# EAGLE library part KXR94 (library kionix)
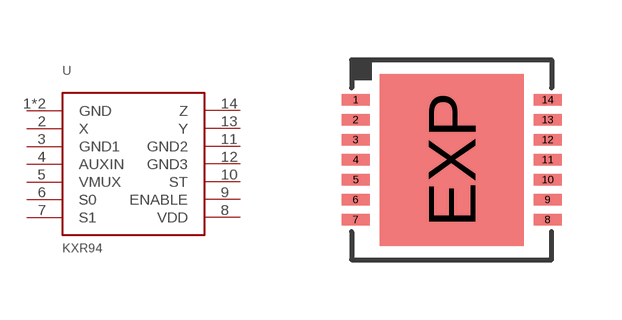
[diagram p0: symbol with the pads of DFN14; footprint DFN14]

Designator prefix -

## KXR94  [DFN14]
1  GND  pwr
2  X  out
3  GND1  pwr
4  AUXIN  in
5  VMUX  out
6  S0  in
7  S1  in
8  VDD  pwr
9  ENABLE  in
10  ST  in
11  GND2  pwr
12  GND3  pwr
13  Y  out
14  Z  out
EXP  GND  pwr

## Footprint DFN14 (pad centres in mm)
smd 0.7 x 0.28: 1 -2.4,1.5; 2 -2.4,1; 3 -2.4,0.5; 4 -2.4,0; 5 -2.4,-0.5; 6 -2.4,-1; 7 -2.4,-1.5; 8 2.4,-1.5; 9 2.4,-1; 10 2.4,-0.5; 11 2.4,0; 12 2.4,0.5; 13 2.4,1; 14 2.4,1.5
smd 3.6 x 4.3: EXP 0,0